# EAGLE library part MAX7456 (library HenryFC)
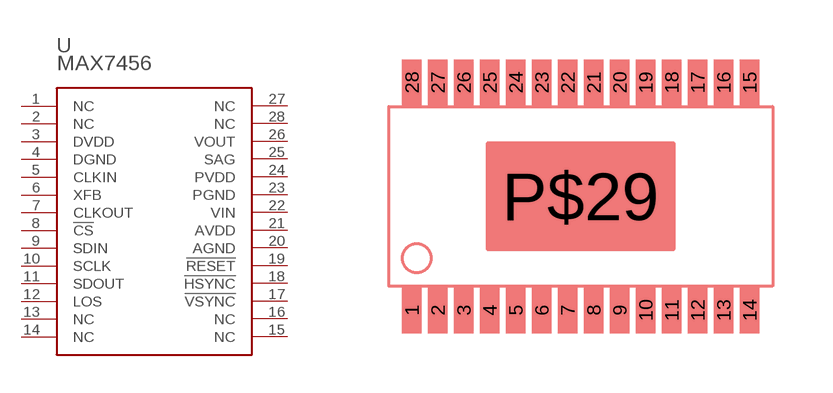
[diagram p1: symbol with the pads of SSOP28; footprint SSOP28]

Designator prefix -

## MAX7456  [SSOP28]
1  NC
2  NC
3  DVDD
4  DGND
5  CLKIN
6  XFB
7  CLKOUT
8  !CS
9  SDIN
10  SCLK
11  SDOUT
12  LOS
13  NC
14  NC
15  NC
16  NC
17  !VSYNC
18  !HSYNC
19  !RESET
20  AGND
21  AVDD
22  VIN
23  PGND
24  PVDD
25  SAG
26  VOUT
27  NC
28  NC

## Footprint SSOP28 (pad centres in mm)
smd 0.5 x 1.15: 1 -4.225,-2.85; 2 -3.575,-2.85; 3 -2.925,-2.85; 4 -2.275,-2.85; 5 -1.625,-2.85; 6 -0.975,-2.85; 7 -0.325,-2.85; 8 0.325,-2.85; 9 0.975,-2.85; 10 1.625,-2.85; 11 2.275,-2.85; 12 2.925,-2.85; 13 3.575,-2.85; 14 4.225,-2.85; 15 4.225,2.85; 16 3.575,2.85; 17 2.925,2.85; 18 2.275,2.85; 19 1.625,2.85; 20 0.975,2.85; 21 0.325,2.85; 22 -0.325,2.85; 23 -0.975,2.85; 24 -1.625,2.85; 25 -2.275,2.85; 26 -2.925,2.85; 27 -3.575,2.85; 28 -4.225,2.85
smd 4.75 x 2.74: P$29 0,0